# Altium footprint library PCB1.PcbLib: 20 footprints (part 2 of 2)
Each footprint in its own frame and in the unit in brackets; x right, y up, seen from the top. Pads: shape width x height; smd on the part's side, far side on the other; paste and mask are expansions set on the pad; w line width, h text height; cw(c..) or ccw(c..) is an arc to the next point about the centre after c.
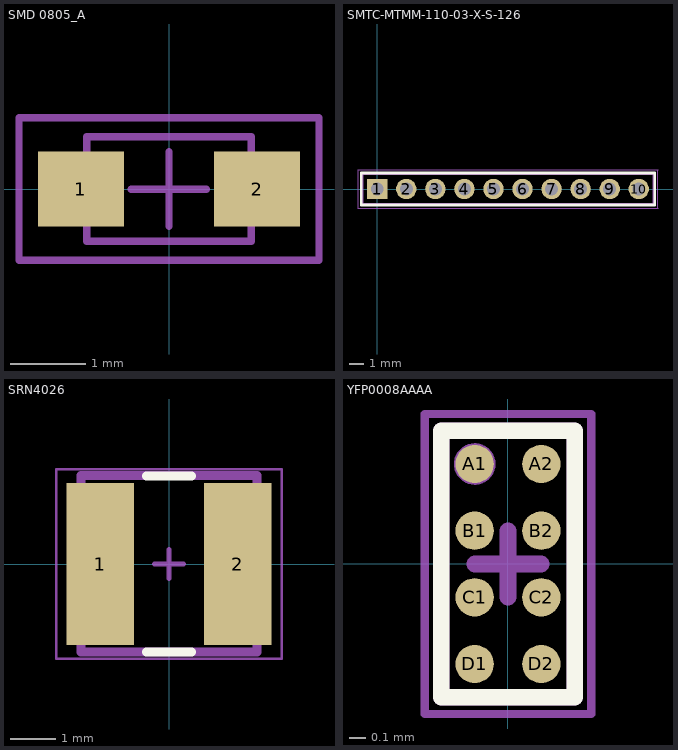
[diagram p1: the footprints below, top view; thin cyan lines are the x and y axes]

## SMD 0805_A [mm] "Chip Inductor, 2-Leads, Body 2,0x1,2mm"
height 1.1
pads (2):
  rect 1.15x1 smd: 1(-1.175,0) 2(1.175,0)
Mechanical 13:
  lines w0.1: -1.1,-0.7 1.1,-0.7 1.1,0.7 -1.1,0.7 -1.1,-0.7
Mechanical 15:
  lines w0.1: -0.5,0 0.5,0 ; 0,-0.5 0,0.5 ; -2,-0.95 2,-0.95 2,0.95 -2,0.95 -2,-0.95
3D body: height 0.89, standoff -0.01, extent -1,-0.6 1,0.6

## SMTC-MTMM-110-03-X-S-126 [mm] "Terminal Strip Assembly, 1x10 Pins, Vertical, 2mm Pitch, Male"
height 4.699
pads (10):
  rect 1.4x1.4 hole 0.89: 1(0,0)
  round 1.4 hole 0.89: 2(2,0) 3(4,0) 4(6,0) 5(8,0) 6(10,0) 7(12,0) 8(14,0) 9(16,0) 10(18,0)
Top Overlay:
  lines w0.2: -1.1,-1.1 -1.1,1.1 19.1,1.1 19.1,-1.1 -1.1,-1.1
Mechanical 13:
  lines w0.1: -1,-1 -1,1 19,1 19,-1 -1,-1
Mechanical 15:
  lines w0.05: -1.325,-1.325 -1.325,1.325 19.325,1.325 19.325,-1.325 -1.325,-1.325
3D body: height 4.7, standoff -2.97, extent -0.995,-1 18.995,0.999

## SRN4026 [mm] "Semi-Shielded Wirewound Inductor"
height 2.5
pads (2):
  rect 1.5x3.6 smd: 1(-1.525,0) 2(1.525,0)
Top Overlay:
  lines w0.2: -0.5,-1.951 0.5,-1.951 ; -0.5,1.951 0.5,1.951
Mechanical 12:
  lines w0.2: -1.951,-1.951 -1.951,1.96 1.951,1.96 1.951,-1.951 -1.951,-1.951
Mechanical 15:
  lines w0.05: -2.5,-2.1 -2.5,2.1 2.5,2.1 2.5,-2.1 -2.5,-2.1
  lines w0.1: -0.325,0 0.325,0 ; 0,-0.325 0,0.325
3D body: height 2.11, standoff -0.04, extent -1.951,-1.951 1.951,1.96

## YFP0008AAAA [mm] "DSBGA, 8-Leads, Body 0.8x1.6mm, Pitch 0.4mm"
pads (8):
  round 0.23 smd paste-0.13 mask+0.038: A1(-0.2,0.6) A2(0.2,0.6) B1(-0.2,0.2) B2(0.2,0.2) C1(-0.2,-0.2) C2(0.2,-0.2) D1(-0.2,-0.6) D2(0.2,-0.6)
Top Overlay:
  lines w0.1: -0.4,-0.8 0.4,-0.8 0.4,0.8 -0.4,0.8 -0.4,-0.8
Top Paste:
  circle w0.05: c0.275,0.675 r0.025
  circle w0.05: c0.125,0.525 r0.025
  circle w0.05: c0.125,0.675 r0.025
  circle w0.05: c0.275,0.525 r0.025
  circle w0.05: c-0.125,0.525 r0.025
  circle w0.05: c-0.275,0.675 r0.025
  circle w0.05: c-0.275,0.525 r0.025
  circle w0.05: c-0.125,0.675 r0.025
  circle w0.05: c0.275,0.275 r0.025
  circle w0.05: c0.125,0.125 r0.025
  circle w0.05: c0.125,0.275 r0.025
  circle w0.05: c0.275,0.125 r0.025
  circle w0.05: c-0.125,0.125 r0.025
  circle w0.05: c-0.275,0.275 r0.025
  circle w0.05: c-0.275,0.125 r0.025
  circle w0.05: c-0.125,0.275 r0.025
  circle w0.05: c0.275,-0.125 r0.025
  circle w0.05: c0.125,-0.275 r0.025
  circle w0.05: c0.125,-0.125 r0.025
  circle w0.05: c0.275,-0.275 r0.025
  circle w0.05: c-0.125,-0.275 r0.025
  circle w0.05: c-0.275,-0.125 r0.025
  circle w0.05: c-0.275,-0.275 r0.025
  circle w0.05: c-0.125,-0.125 r0.025
  circle w0.05: c-0.125,-0.525 r0.025
  circle w0.05: c-0.275,-0.675 r0.025
  circle w0.05: c-0.275,-0.525 r0.025
  circle w0.05: c-0.125,-0.675 r0.025
  circle w0.05: c0.275,-0.675 r0.025
  circle w0.05: c0.125,-0.525 r0.025
  circle w0.05: c0.125,-0.675 r0.025
  circle w0.05: c0.275,-0.525 r0.025
  rectangle: 0.125,0.475 0.275,0.525
  region: 0.075,0.675 0.075,0.525 0.125,0.525 0.125,0.675
  region: 0.275,0.725 0.125,0.725 0.125,0.675 0.275,0.675
  region: 0.325,0.525 0.325,0.675 0.275,0.675 0.275,0.525
  region: 0.125,0.675 0.125,0.525 0.275,0.525 0.275,0.675
  region: -0.275,0.675 -0.275,0.525 -0.125,0.525 -0.125,0.675
  region: -0.075,0.525 -0.075,0.675 -0.125,0.675 -0.125,0.525
  region: -0.125,0.725 -0.275,0.725 -0.275,0.675 -0.125,0.675
  region: -0.325,0.675 -0.325,0.525 -0.275,0.525 -0.275,0.675
  rectangle: -0.275,0.475 -0.125,0.525
  rectangle: 0.125,0.075 0.275,0.125
  region: 0.075,0.275 0.075,0.125 0.125,0.125 0.125,0.275
  region: 0.275,0.325 0.125,0.325 0.125,0.275 0.275,0.275
  region: 0.325,0.125 0.325,0.275 0.275,0.275 0.275,0.125
  region: 0.125,0.275 0.125,0.125 0.275,0.125 0.275,0.275
  region: -0.275,0.275 -0.275,0.125 -0.125,0.125 -0.125,0.275
  region: -0.075,0.125 -0.075,0.275 -0.125,0.275 -0.125,0.125
  region: -0.125,0.325 -0.275,0.325 -0.275,0.275 -0.125,0.275
  region: -0.325,0.275 -0.325,0.125 -0.275,0.125 -0.275,0.275
  rectangle: -0.275,0.075 -0.125,0.125
  rectangle: 0.125,-0.325 0.275,-0.275
  region: 0.075,-0.125 0.075,-0.275 0.125,-0.275 0.125,-0.125
  region: 0.275,-0.075 0.125,-0.075 0.125,-0.125 0.275,-0.125
  region: 0.325,-0.275 0.325,-0.125 0.275,-0.125 0.275,-0.275
  region: 0.125,-0.125 0.125,-0.275 0.275,-0.275 0.275,-0.125
  region: -0.275,-0.125 -0.275,-0.275 -0.125,-0.275 -0.125,-0.125
  region: -0.075,-0.275 -0.075,-0.125 -0.125,-0.125 -0.125,-0.275
  region: -0.125,-0.075 -0.275,-0.075 -0.275,-0.125 -0.125,-0.125
  region: -0.325,-0.125 -0.325,-0.275 -0.275,-0.275 -0.275,-0.125
  rectangle: -0.275,-0.325 -0.125,-0.275
  rectangle: -0.275,-0.725 -0.125,-0.675
  region: -0.325,-0.525 -0.325,-0.675 -0.275,-0.675 -0.275,-0.525
  region: -0.125,-0.475 -0.275,-0.475 -0.275,-0.525 -0.125,-0.525
  region: -0.075,-0.675 -0.075,-0.525 -0.125,-0.525 -0.125,-0.675
  region: -0.275,-0.525 -0.275,-0.675 -0.125,-0.675 -0.125,-0.525
  region: 0.125,-0.525 0.125,-0.675 0.275,-0.675 0.275,-0.525
  region: 0.325,-0.675 0.325,-0.525 0.275,-0.525 0.275,-0.675
  region: 0.275,-0.475 0.125,-0.475 0.125,-0.525 0.275,-0.525
  region: 0.075,-0.525 0.075,-0.675 0.125,-0.675 0.125,-0.525
  rectangle: 0.125,-0.725 0.275,-0.675
Mechanical 12:
  circle w0.05: c-0.2,0.6 r0.1
  lines w0.1: -0.4,-0.8 -0.4,0.8 0.4,0.8 0.4,-0.8 -0.4,-0.8
Mechanical 15:
  lines w0.05: -0.5,-0.9 0.5,-0.9 0.5,0.9 -0.5,0.9 -0.5,-0.9
  lines w0.1: -0.2,0 0.2,0 ; 0,-0.2 0,0.2
3D body: height 0.51, standoff 0.4, extent -0.308,0.492 -0.092,0.708
3D body: height 0.5, standoff 0, extent -0.4,-0.8 0.4,0.8